# EAGLE library part NH8 (library connector2)
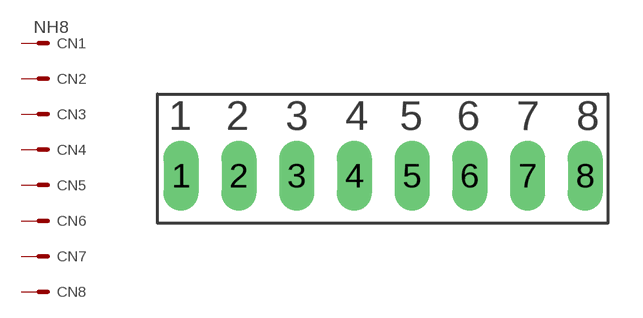
[diagram p1: symbol with the pads of NH8; footprint NH8]

Designator prefix CN; gates 1=MV 2=M 3=M 4=M 5=M 6=M 7=M 8=M

## NH8  [NH8]
1  1:S  pas
2  2:S  pas
3  3:S  pas
4  4:S  pas
5  5:S  pas
6  6:S  pas
7  7:S  pas
8  8:S  pas

## Footprint NH8 (pad centres in mm)
drill 1 long: 1 1,2; 2 3.5,2; 3 6,2; 4 8.5,2; 5 11,2; 6 13.5,2; 7 16,2; 8 18.5,2